# Altium schematic symbol library COM-10302.SchLib: 1 symbol
Pins are listed as number, name and electrical type; pins without a type are passive.

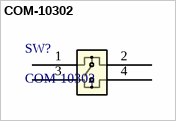
[diagram p0: symbol COM-10302]

## COM-10302
designator SW?
Description; Manufacturer_Name: Sparkfun; Copyright: Copyright (C) 2025 Ultra Librarian. All rights reserved.; Manufacturer_Part_Number: COM-10302; RefDes: RefDes; Type: Type
footprint COM-10302_SPK
pins: 1, 2, 3, 4